# EAGLE library part HV9961LG-G (library IC_Power-Management)
LED Driver with Average-Current Mode Constant-Current Control Datasheet <http://ww1.microchip.com/downloads/en/devicedoc/20005588a.pdf>
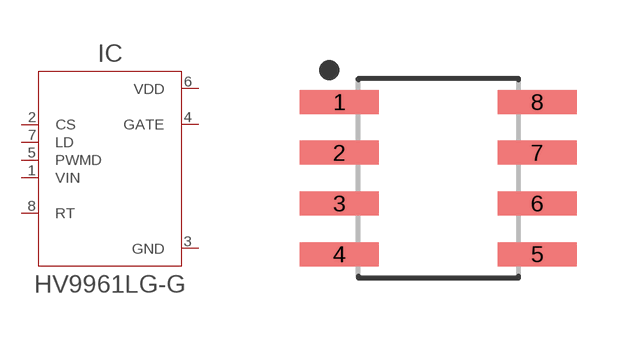
[diagram p0: symbol with the pads of SOIC127P600X175-8N; footprint SOIC127P600X175-8N]

Designator prefix IC

## HV9961LG-GLG/TG (CATEGORY: IC_Power-Management; MANUFACTURER: Microchip; MPN: HV9961LG-G; OPERATING_TEMP: -40 to +125 °C; PART_STATUS: Active; ROHS_COMPLIANT: RoHS3 Compliant; SUB-CATEGORY: Driver; THERMALLOSS: 0.63W; VALUE: HV9961LG)  [SOIC127P600X175-8N]
1  VIN  in
2  CS  in
3  GND  pwr
4  GATE  out
5  PWMD  in
6  VDD  pwr
7  LD  in
8  RT

## Footprint SOIC127P600X175-8N (pad centres in mm)
8-SOIC, 1.27 mm pitch, 6.00 mm span, 4.90 X 3.90 X 1.75 mm body 8-pin SOIC package with 1.27 mm pitch, 6.00 mm span with body size 4.90 X 3.90 X 1.75 mm
smd 1.968 x 0.599: 1 -2.473,1.905; 2 -2.473,0.635; 3 -2.473,-0.635; 4 -2.473,-1.905; 5 2.473,-1.905; 6 2.473,-0.635; 7 2.473,0.635; 8 2.473,1.905